# Altium schematic symbol library Jumper.Schlib: 1 symbol
Pins are listed as number, name and electrical type; pins without a type are passive.

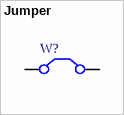
[diagram p0: symbol Jumper]

## Jumper
designator W?
Jumper Wire
pins: 1 C1, 2 C2